# Altium schematic symbol library diode_zener.SchLib: 1 symbol
Pins are listed as number, name and electrical type; pins without a type are passive.

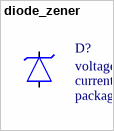
[diagram p0: symbol diode_zener]

## diode_zener
designator D?
component category: diode; ComponentLink1Description: datasheet; ComponentLink1URL: *; ComponentLink2Description: supplier link; ComponentLink2URL: *; component type: rectifier; supplier link: *; supplier currency: *; price,max: *; price,min: *; Quantity,max: *; Quantity,min: *; Operating Temparature,max: *; Operating Temparature,min: *; Supplier Part number: *; Supplier: *; Manufacturer Part number: *; Manufacturer: *; current: *; package: *; voltage: *
footprint Diode_SOD-523_SC-79
footprint Diode_SOD-123F
pins: A, C